# EAGLE library part AK500/8-H (library MY-AK300)
CONNECTOR Aug. 2004 / PTR Meßtechnik: Die Bezeichnung der Serie AK505 wurde geändert. Es handelt sich hierbei um AK500 in horizontaler Ausführung.
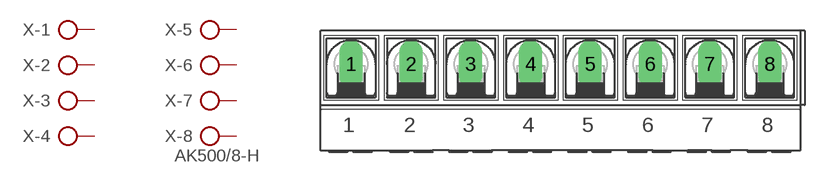
[diagram p16: symbol with the pads of AK500/8-H; footprint AK500/8-H]

Designator prefix X; gates -1=KL -2=KL -3=KL -4=KL -5=KL -6=KL -7=KL -8=KLV

## AK500/8-H (OC_FARNELL: unknown; OC_NEWARK: unknown)  [AK500/8-H]
1  -1:KL  pas
2  -2:KL  pas
3  -3:KL  pas
4  -4:KL  pas
5  -5:KL  pas
6  -6:KL  pas
7  -7:KL  pas
8  -8:KL  pas

## Footprint AK500/8-H (pad centres in mm)
CONNECTOR Aug. 2004 / PTR Meßtechnik: Die Bezeichnung der Serie AK505 wurde geändert. Es handelt sich hierbei um AK500 in horizontaler Ausführung.
drill 1.321 long: 1 -17.526,0; 2 -12.497,0; 3 -7.518,0; 4 -2.489,0; 5 2.489,0; 6 7.518,0; 7 12.497,0; 8 17.526,0